# Altium schematic symbol library Schlib1.SchLib: 3 symbols
Pins are listed as number, name and electrical type; pins without a type are passive.

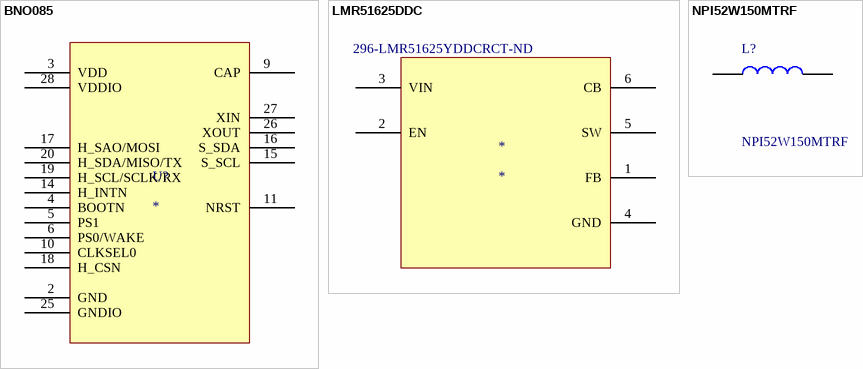
[diagram p0: symbols BNO085 to NPI52W150MTRF]

## BNO085
designator U?
pins: 2 GND, 3 VDD, 4 BOOTN, 5 PS1, 6 PS0/WAKE, 9 CAP, 10 CLKSEL0, 11 NRST, 14 H_INTN, 15 S_SCL, 16 S_SDA, 17 H_SAO/MOSI, 18 H_CSN, 19 H_SCL/SCLK/RX, 20 H_SDA/MISO/TX, 25 GNDIO, 26 XOUT, 27 XIN, 28 VDDIO

## LMR51625DDC
designator *  Supplier Part Number 1: 296-LMR51625YDDCRCT-ND
LMR516x5 4.3V to 60V, 2.5A / 3.5A, Synchronous, Buck Converter With Low IQ; Data: *; Supplier 1: DigiKey
footprint SOT23-6
pins: 1 FB, 2 EN, 3 VIN, 4 GND, 5 SW, 6 CB

## NPI52W150MTRF
designator L?
Power Inductor (SMD), 15 uH, +/- 20%, 4 A, Unshielded, 8 A, 18.4mm x 15mm x 7mm; Manufacturer_Name: NIC Components; Geometry.Height: 7.5mm; Manufacturer_Part_Number: NPI52W150MTRF; Mouser Part Number: *; Mouser Price/Stock: *; Arrow Part Number: NPI52W150MTRF; Arrow Price/Stock: https://www.arrow.com/en/products/npi52w150mtrf/nic-components?utm_currency=USD&region=nac; Datasheet Link: https://www.niccomp.com/products/catalog/npi_w.pdf
footprint NPI52W150MTRF
pins: 1, 2